# Altium integrated library ATK-MD0430.IntLib: 11 symbols
Pins are listed as number, name and electrical type; pins without a type are passive.

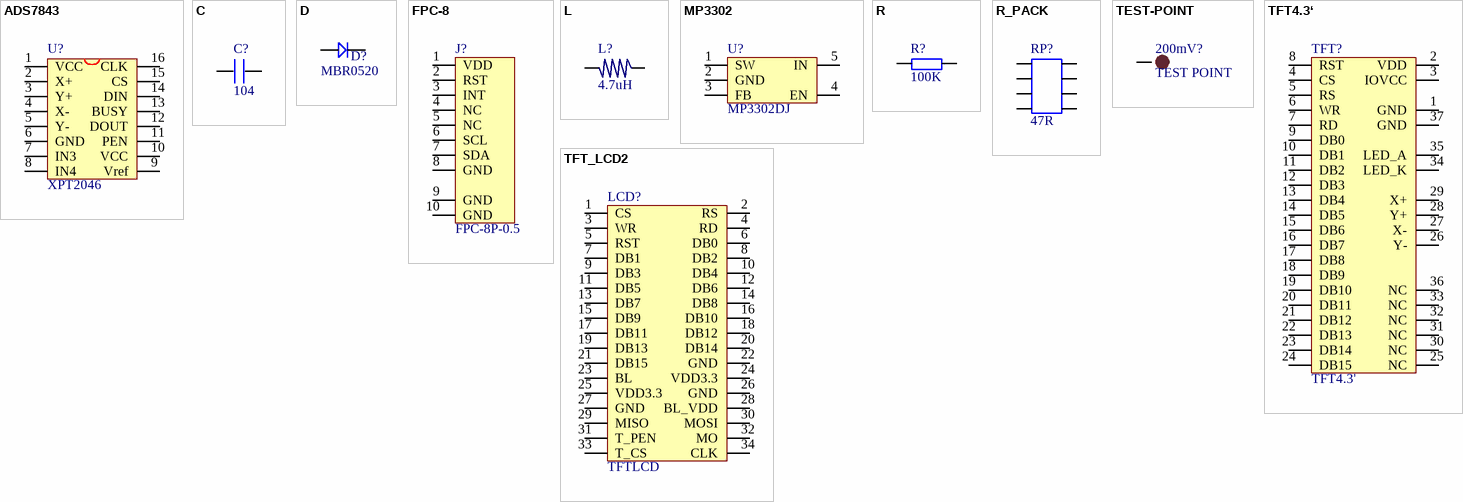
[diagram p0: symbols ADS7843 to TFT_LCD2]

## ADS7843
designator U?, comment XPT2046
footprint SSOP16 (ADS7843,P2P:0.625mm,w:6mm)
pins: 1 VCC, 2 X+, 3 Y+, 4 X-, 5 Y-, 6 GND, 7 IN3, 8 IN4, 9 Vref, 10 VCC, 11 PEN, 12 DOUT, 13 BUSY, 14 DIN, 15 CS, 16 CLK

## C
designator C?, comment 104
footprint 0603P
footprint 0805
pins: 1, 2

## D
designator D?, comment MBR0520
1N4148
footprint SOD-123
footprint DIODE_SOP (4148)
footprint DIODE-L (6A10)
footprint DIODE-M (1N5822)
footprint DIODE_S (1N4007)
footprint DIODE_3*5.3 (ME:SS14/SS24;L:5.3mm;W:3mm;)
footprint DIODE_4*5.6 (ME:RS2J.L:5.6mm;W:4mm)
footprint DIODE_6.2*8.13 (ME:RS2J.L:8.13mm;W:6.2mm)
pins: 1, 2

## FPC-8
designator J?, comment FPC-8P-0.5
FPC-8P-0.5mm
footprint FPC50
footprint FPC-8P (FPC;8P;0.5mm;)
pins: 1 VDD, 2 RST, 3 INT, 4 NC, 5 NC, 6 SCL, 7 SDA, 8 GND, 9 GND, 10 GND
2 alternate drawings of the same symbol

## L
designator L?, comment 4.7uH
footprint L3A (L)
footprint L4.7
footprint L_USER (SELF_DEF)
footprint L10 (10mH)
footprint SMD7850
footprint 0805
footprint 1206
footprint L_SOPL (L_LARGE)
footprint L_CD43 (4mm*4mm)
footprint 0603P
footprint L_SOP4 (4mm*4mm*1.7mm)
pins: 1, 2

## MP3302
designator U?, comment MP3302DJ
LCD背光IC
footprint SOT-23-5
pins: 1 SW, 2 GND, 3 FB, 4 EN, 5 IN

## R
designator R?, comment 100K
footprint 0805
footprint 0603P
pins: 1, 2

## R_PACK
designator RP?, comment 47R
排阻
footprint 8P4R_0603
pins: 1, 2, 3, 4, 5, 6, 7, 8

## TEST-POINT
designator 200mV?, comment TEST POINT
测试点
footprint TP-1.0 (1.0mm)
footprint TP-1.5 (1.5mm)
pins: 1

## TFT4.3‘
designator TFT?, comment TFT4.3'
4.3寸,电容/电阻触摸,分辨率:480*800
footprint TFT4.3' (TFT,LCD,480*800,4.3',TOUCH,16bit)
pins: 1 GND, 2 VDD, 3 IOVCC, 4 CS, 5 RS, 6 WR, 7 RD, 8 RST, 9 DB0, 10 DB1, 11 DB2, 12 DB3, 13 DB4, 14 DB5, 15 DB6, 16 DB7, 17 DB8, 18 DB9, 19 DB10, 20 DB11, 21 DB12, 22 DB13, 23 DB14, 24 DB15, 25 NC, 26 Y-, 27 X-, 28 Y+, 29 X+, 30 NC, 31 NC, 32 NC, 33 NC, 34 LED_K, 35 LED_A, 36 NC, 37 GND

## TFT_LCD2
designator LCD?, comment TFTLCD
footprint DB2*17-3.5 (DB_LCD-3.5')
pins: 1 CS, 2 RS, 3 WR, 4 RD, 5 RST, 6 DB0, 7 DB1, 8 DB2, 9 DB3, 10 DB4, 11 DB5, 12 DB6, 13 DB7, 14 DB8, 15 DB9, 16 DB10, 17 DB11, 18 DB12, 19 DB13, 20 DB14, 21 DB15, 22 GND, 23 BL, 24 VDD3.3, 25 VDD3.3, 26 GND, 27 GND, 28 BL_VDD, 29 MISO, 30 MOSI, 31 T_PEN, 32 MO, 33 T_CS, 34 CLK